# Altium footprint library TNBZLY.PcbLib: 48 footprints (part 3 of 3)
Each footprint in its own frame and in the unit in brackets; x right, y up, seen from the top. Pads: shape width x height; smd on the part's side, far side on the other; paste and mask are expansions set on the pad; w line width, h text height; cw(c..) or ccw(c..) is an arc to the next point about the centre after c.
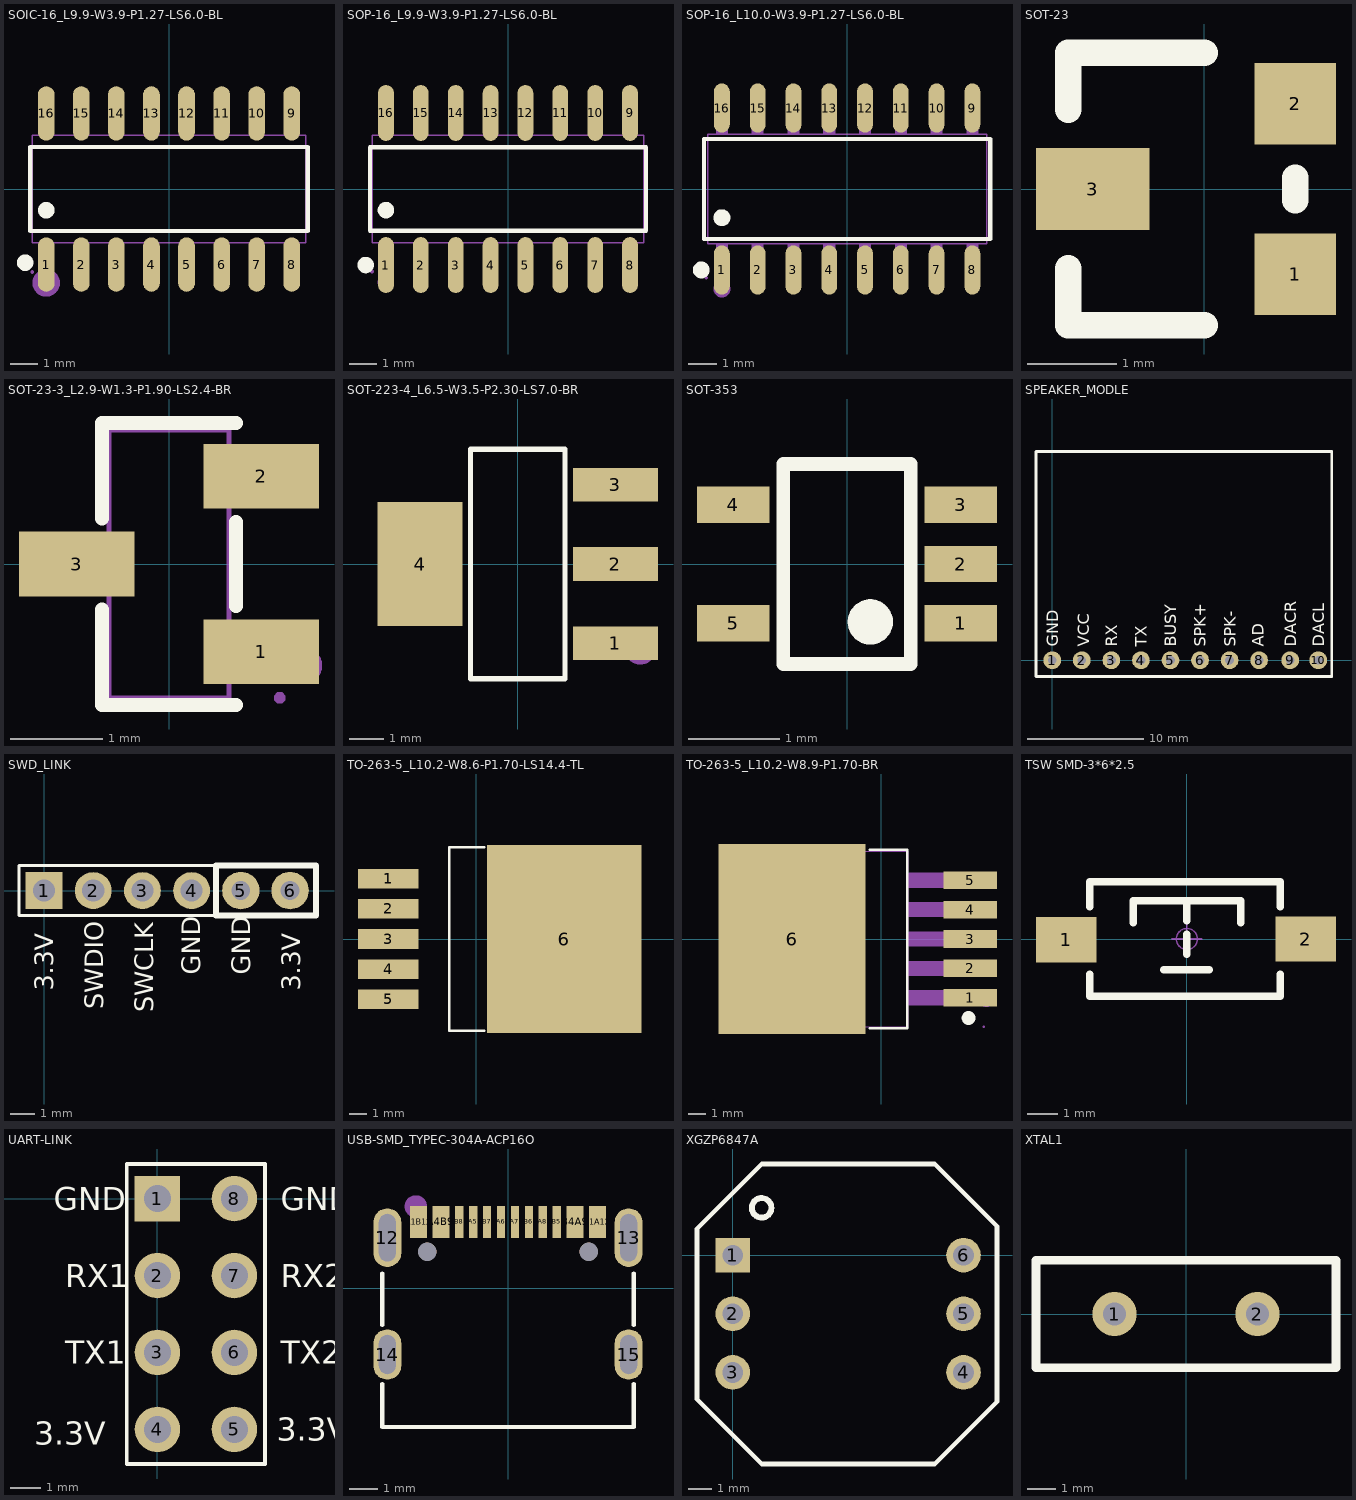
[diagram p2: the footprints below, top view; thin cyan lines are the x and y axes]

## SOIC-16_L9.9-W3.9-P1.27-LS6.0-BL [mm]
pads (16):
  oval 0.602x1.971 smd mask+0.051: 1(-4.445,-2.736) 2(-3.175,-2.736) 3(-1.905,-2.736) 4(-0.635,-2.736) 5(0.635,-2.736) 6(1.905,-2.736) 7(3.175,-2.736) 8(4.445,-2.736) 9(4.445,2.736) 10(3.175,2.736) 11(1.905,2.736) 12(0.635,2.736) 13(-0.635,2.736) 14(-1.905,2.736) 15(-3.175,2.736) 16(-4.445,2.736)
Top Overlay:
  circle w0.3: c-4.445,-0.769 r0.15
  circle w0.3: c-5.207,-2.667 r0.15
  lines w0.152: -5.026,-1.521 -5.026,1.521 5.026,1.521 5.026,-1.521 -5.026,-1.521
Mechanical 6:
  circle w0.5: c-4.445,-3.4 r0.25
Mechanical 15:
  drawing of 37 lines, arcs and shapes, not listed

## SOP-16_L9.9-W3.9-P1.27-LS6.0-BL [mm]
pads (16):
  oval 0.574x2.038 smd mask+0.051: 1(-4.445,-2.769) 2(-3.175,-2.769) 3(-1.905,-2.769) 4(-0.635,-2.769) 5(0.635,-2.769) 6(1.905,-2.769) 7(3.175,-2.769) 8(4.445,-2.769) 9(4.445,2.769) 10(3.175,2.769) 11(1.905,2.769) 12(0.635,2.769) 13(-0.635,2.769) 14(-1.905,2.769) 15(-3.175,2.769) 16(-4.445,2.769)
Top Overlay:
  circle w0.3: c-4.445,-0.769 r0.15
  circle w0.3: c-5.184,-2.769 r0.15
  lines w0.152: -5.026,-1.521 5.026,-1.521 5.026,1.521 -5.026,1.521 -5.026,-1.521
Mechanical 6:
  circle w0.3: c-4.445,-3.4 r0.15
Mechanical 15:
  drawing of 37 lines, arcs and shapes, not listed

## SOP-16_L10.0-W3.9-P1.27-LS6.0-BL [mm] "ULN2003 步进电机驱动"
pads (16):
  oval 0.56x1.745 smd mask+0.051: 1(-4.445,-2.872) 2(-3.175,-2.872) 3(-1.905,-2.872) 4(-0.635,-2.872) 5(0.635,-2.872) 6(1.905,-2.872) 7(3.175,-2.872) 8(4.445,-2.872) 9(4.445,2.872) 10(3.175,2.872) 11(1.905,2.872) 12(0.635,2.872) 13(-0.635,2.872) 14(-1.905,2.872) 15(-3.175,2.872) 16(-4.445,2.872)
Top Overlay:
  circle w0.3: c-5.177,-2.872 r0.15
  circle w0.3: c-4.445,-1.019 r0.15
  lines w0.152: -5.076,-1.771 5.076,-1.771 5.076,1.771 -5.076,1.771 -5.076,-1.771
Mechanical 6:
  circle w0.3: c-4.445,-3.55 r0.15
Mechanical 15:
  drawing of 37 lines, arcs and shapes, not listed

## SOT-23 [mil]
pads (3):
  rect 35.98x35.98 smd: 1(40,-37.52) 2(40,37.52)
  rect 50x35.98 smd: 3(-49.2,0)
Top Overlay:
  lines w11.81: -60,-35 -60,-60 0,-60 ; -60,35 -60,60 0,60 ; 40,-5 40,5

## SOT-23-3_L2.9-W1.3-P1.90-LS2.4-BR [mm]
pads (3):
  rect 1.25x0.7 smd mask+0.051: 1(1,-0.95) 2(1,0.95) 3(-1,0)
Top Overlay:
  lines w0.152: -0.726,-0.495 -0.726,-1.526 0.726,-1.526 ; -0.726,0.495 -0.726,1.526 0.726,1.526 ; 0.726,-0.455 0.726,0.455
Mechanical 6:
  circle w0.2: c1.46,-1.1 r0.1
Mechanical 15:
  region: 1.26,-1.45 1.26,-1.425 1.225,-1.39 1.175,-1.39 1.14,-1.425 1.14,-1.45 1.14,-1.475 1.175,-1.51 1.225,-1.51 1.26,-1.475 1.26,-1.45
  region: 0.64,0.735 0.64,1.165 0.91,1.165 0.91,0.735
  region: 0.9,0.735 0.9,1.165 1.2,1.165 1.2,0.735
  region: 0.64,-1.165 0.64,-0.735 0.91,-0.735 0.91,-1.165
  region: 0.9,-1.165 0.9,-0.735 1.2,-0.735 1.2,-1.165
  region: -0.91,-0.215 -0.91,0.215 -0.64,0.215 -0.64,-0.215
  region: -1.2,-0.215 -1.2,0.215 -0.9,0.215 -0.9,-0.215
  lines w0.051: -0.65,-1.45 -0.65,1.45 0.65,1.45 0.65,-1.45 -0.65,-1.45

## SOT-223-4_L6.5-W3.5-P2.30-LS7.0-BR [mm] "AMS1117-3V3"
pads (4):
  rect 2.47x0.98 smd: 1(2.835,-2.3) 2(2.835,0) 3(2.835,2.3)
  rect 2.47x3.6 smd: 4(-2.835,0)
Top Overlay:
  lines w0.152: -1.371,-3.326 -1.371,3.326 1.371,3.326 1.371,-3.326 -1.371,-3.326
Mechanical 15:
  circle w0.5: c3.556,-2.413 r0.25

## SOT-353 [mm]
pads (5):
  rect 0.8x0.4 smd: 1(1.25,-0.65) 2(1.25,0) 3(1.25,0.65) 4(-1.25,0.65) 5(-1.25,-0.65)
Top Overlay:
  lines w0.15: -0.7,-1.1 0.7,-1.1 0.7,1.1 -0.7,1.1 -0.7,-1.1
  lines w0.249: 0.381,-0.638 cw(c0.257,-0.636) 0.381,-0.635

## SPEAKER_MODLE [mil]
pads (10):
  round 60 hole 30: 1(0,0) 2(100,0) 3(200,0) 4(300,0) 5(400,0) 6(500,0) 7(600,0) 8(700,0) 9(805,0) 10(900,0)
Top Overlay:
  lines w10: -55,-55 945.63,-55 945.63,706.26 -55,706.26 -55,-55
  text "GND" at 20,45 h40
  text "VCC" at 125,45 h40
  text "RX" at 220,45 h40
  text "TX" at 320,45 h40
  text "BUSY" at 420,45 h40
  text "SPK+" at 520,45 h40
  text "SPK-" at 620,45 h40
  text "AD" at 715,45 h40
  text "DACR" at 825,45 h40
  text "DACL" at 920,45 h40

## SWD_LINK [mm] "Connector; Header; 10x2 Position"
pads (6):
  rect 1.5x1.5 hole 0.9: 1(0,0)
  round 1.5 hole 0.9: 2(2,0) 3(4,0) 4(6,0)
  round 1.524 hole 0.762: 5(8,0) 6(10,0)
Top Overlay:
  lines w0.127: -1.016,-1.016 -1.016,1.016 11.049,1.016 11.049,-1.016 -1.016,-1.016
  lines w0.254: 11.049,-1.016 6.985,-1.016 6.985,1.016 11.049,1.016 ; 11.049,-1.016 11.049,-1.016 ; 11.049,-1.016 11.049,1.016 ; 11.049,1.016 11.049,1.016
  text "GND" at 6.35,-3.429 h0.76
  text "SWCLK" at 4.445,-4.953 h0.76
  text "SWDIO" at 2.413,-4.826 h0.76
  text "3.3V" at 0.381,-4.064 h0.76
  text "GND" at 8.382,-3.429 h0.76
  text "3.3V" at 10.414,-4.064 h0.76

## TO-263-5_L10.2-W8.6-P1.70-LS14.4-TL [mm] "LM2576S-5V       开关稳压器"
pads (6):
  rect 3.4x1.1 smd: 1(-4.953,3.4) 2(-4.953,1.7) 3(-4.953,0) 4(-4.953,-1.7) 5(-4.953,-3.4)
  rect 8.705x10.587 smd: 6(4.953,0)
Top Overlay:
  lines w0.152: 0.448,-5.166 -1.516,-5.166 -1.516,5.166 0.448,5.166
Mechanical 15:
  circle w0.42: c-6.096,3.429 r0.21

## TO-263-5_L10.2-W8.9-P1.70-BR [mm]
pads (6):
  rect 3.083x1.02 smd mask+0.051: 1(5.16,-3.4) 2(5.16,-1.7) 3(5.16,0) 4(5.16,1.7) 5(5.16,3.4)
  rect 8.5x11 smd mask+0.051: 6(-5.16,0)
Top Overlay:
  circle w0.4: c5.057,-4.572 r0.2
  lines w0.15: -0.658,-5.156 1.156,-5.156 ; -0.658,5.156 1.131,5.156 ; 1.032,-5.156 1.501,-5.156 ; 1.032,5.156 1.501,5.156
  lines w0.152: 1.501,-5.156 1.501,5.156
Mechanical 6:
  circle w0.5: c6.073,-3.429 r0.25
Mechanical 15:
  region: 3.956,3.82 5.936,3.82 5.936,2.98 3.956,2.98
  region: 3.956,2.12 5.936,2.12 5.936,1.28 3.956,1.28
  region: 3.956,0.42 5.936,0.42 5.936,-0.42 3.956,-0.42
  region: 3.956,-1.28 5.936,-1.28 5.936,-2.12 3.956,-2.12
  region: 3.959,3.82 3.959,2.98 1.55,2.98 1.55,3.82
  region: 3.959,2.12 3.959,1.28 1.55,1.28 1.55,2.12
  region: 3.959,0.42 3.959,-0.42 1.55,-0.42 1.55,0.42
  region: 3.959,-1.28 3.959,-2.12 1.55,-2.12 1.55,-1.28
  region: 3.956,-2.98 5.936,-2.98 5.936,-3.82 3.956,-3.82
  region: -1.234,5.08 -1.234,-5.08 -7.398,-5.08 -8.414,-4.064 -8.414,4.064 -7.398,5.08
  region: 3.959,-2.98 3.959,-3.82 1.55,-3.82 1.55,-2.98
  region: 5.996,-5.08 5.996,-5.055 5.96,-5.02 5.911,-5.02 5.876,-5.055 5.876,-5.08 5.876,-5.105 5.911,-5.14 5.96,-5.14 5.996,-5.105 5.996,-5.08
  lines w0.051: -7.144,-5.08 -7.144,5.08 1.556,5.08 1.556,-5.08 -7.144,-5.08

## TSW SMD-3*6*2.5 [mm] "3*6*2.5mm"
pads (2):
  rect 2x1.5 smd: 1(-3.996,-0.02) 2(3.937,0)
Top Overlay:
  lines w0.254: -3.212,-1.168 -3.212,-1.9 3.088,-1.9 3.088,-1.168 ; -3.212,1.067 -3.212,1.9 3.088,1.9 3.088,1.067 ; -1.778,0.533 -1.778,1.27 1.778,1.27 1.778,0.533 ; -0.762,-1.016 0.737,-1.016 ; 0,-0.508 0,0.152 ; 0,0.61 0,1.27
Mechanical 15:
  circle w0.05: c0,0 r0.35
  lines w0.05: -0.5,0 0.5,0 ; 0,-0.5 0,0.5
3D body "TSW SMD-3x6x2.5.STEP": height 2.59, standoff -0.03, extent -4,-1.877 4,1.623

## UART-LINK [mm] "Connector; Header; 10x2 Position"
pads (8):
  rect 1.5x1.5 hole 0.9: 1(0,0)
  round 1.5 hole 0.9: 2(0,-2.54) 3(0,-5.08) 4(0,-7.62) 5(2.54,-7.62) 6(2.54,-5.08) 7(2.54,-2.54) 8(2.54,0)
Top Overlay:
  lines w0.127: -1.016,-8.763 -1.016,1.143 3.556,1.143 3.556,-8.763 -1.016,-8.763
  text "3.3V" at -4.064,-8.128 h0.76
  text "TX1" at -3.048,-5.461 h0.76
  text "RX1" at -3.048,-2.921 h0.76
  text "GND" at -3.429,-0.381 h0.76
  text "3.3V" at 3.937,-8.001 h0.76
  text "GND" at 4.064,-0.381 h0.76
  text "TX2" at 4.064,-5.461 h0.76
  text "RX2" at 4.064,-2.921 h0.76

## USB-SMD_TYPEC-304A-ACP16O [mm]
pads (18):
  oval 1x2.1 hole 0.6 slot 1.7 at 90 deg: 12(-4.32,1.808) 13(4.32,1.808)
  oval 1x1.8 hole 0.6 slot 1.4 at 90 deg: 14(-4.32,-2.372) 15(4.32,-2.372)
  rect 0.6x1.15 smd: A1B12(-3.2,2.373) A4B9(-2.4,2.373) B1A12(3.2,2.373) B4A9(2.4,2.373)
  rect 0.3x1.15 smd: A5(-1.25,2.373) A6(-0.25,2.373) A7(0.25,2.373) A8(1.25,2.373) B5(1.75,2.373) B6(0.75,2.373) B7(-0.75,2.373) B8(-1.75,2.373)
  round 0.65 hole 0.65 unplated: ""(-2.89,1.307) ""(2.89,1.307)
Top Overlay:
  lines w0.15: -4.5,-3.427 -4.5,-4.972 4.5,-4.972 4.5,-3.427 ; -4.5,-1.318 -4.5,0.528 ; 4.5,-1.318 4.5,0.528
Mechanical 15:
  circle w0.4: c-3.3,2.927 r0.2

## XGZP6847A [mm] "气压传感器"
pads (6):
  rect 1.5x1.5 hole 0.9: 1(0,0)
  round 1.5 hole 0.9: 2(0,-2.54) 3(0,-5.08) 4(10,-5.08) 5(10,-2.54) 6(10,0)
Top Overlay:
  circle w0.254: c1.25,2.05 r0.424
  lines w0.2: -1.55,-6.25 -1.55,1.15 1.25,3.95 8.75,3.95 11.45,1.25 11.45,-6.35 8.75,-9.05 1.25,-9.05 -1.55,-6.25

## XTAL1 [mil]
pads (2):
  round 62 hole 32: 1(-100,0) 2(100,0)
Top Overlay:
  lines w12: -210,-75 -210,75 210,75 210,-75 -210,-75